# Altium footprint library ZYF_Connector.PcbLib: 31 footprints (part 1 of 2)
Each footprint in its own frame and in the unit in brackets; x right, y up, seen from the top. Pads: shape width x height; smd on the part's side, far side on the other; paste and mask are expansions set on the pad; w line width, h text height; cw(c..) or ccw(c..) is an arc to the next point about the centre after c.
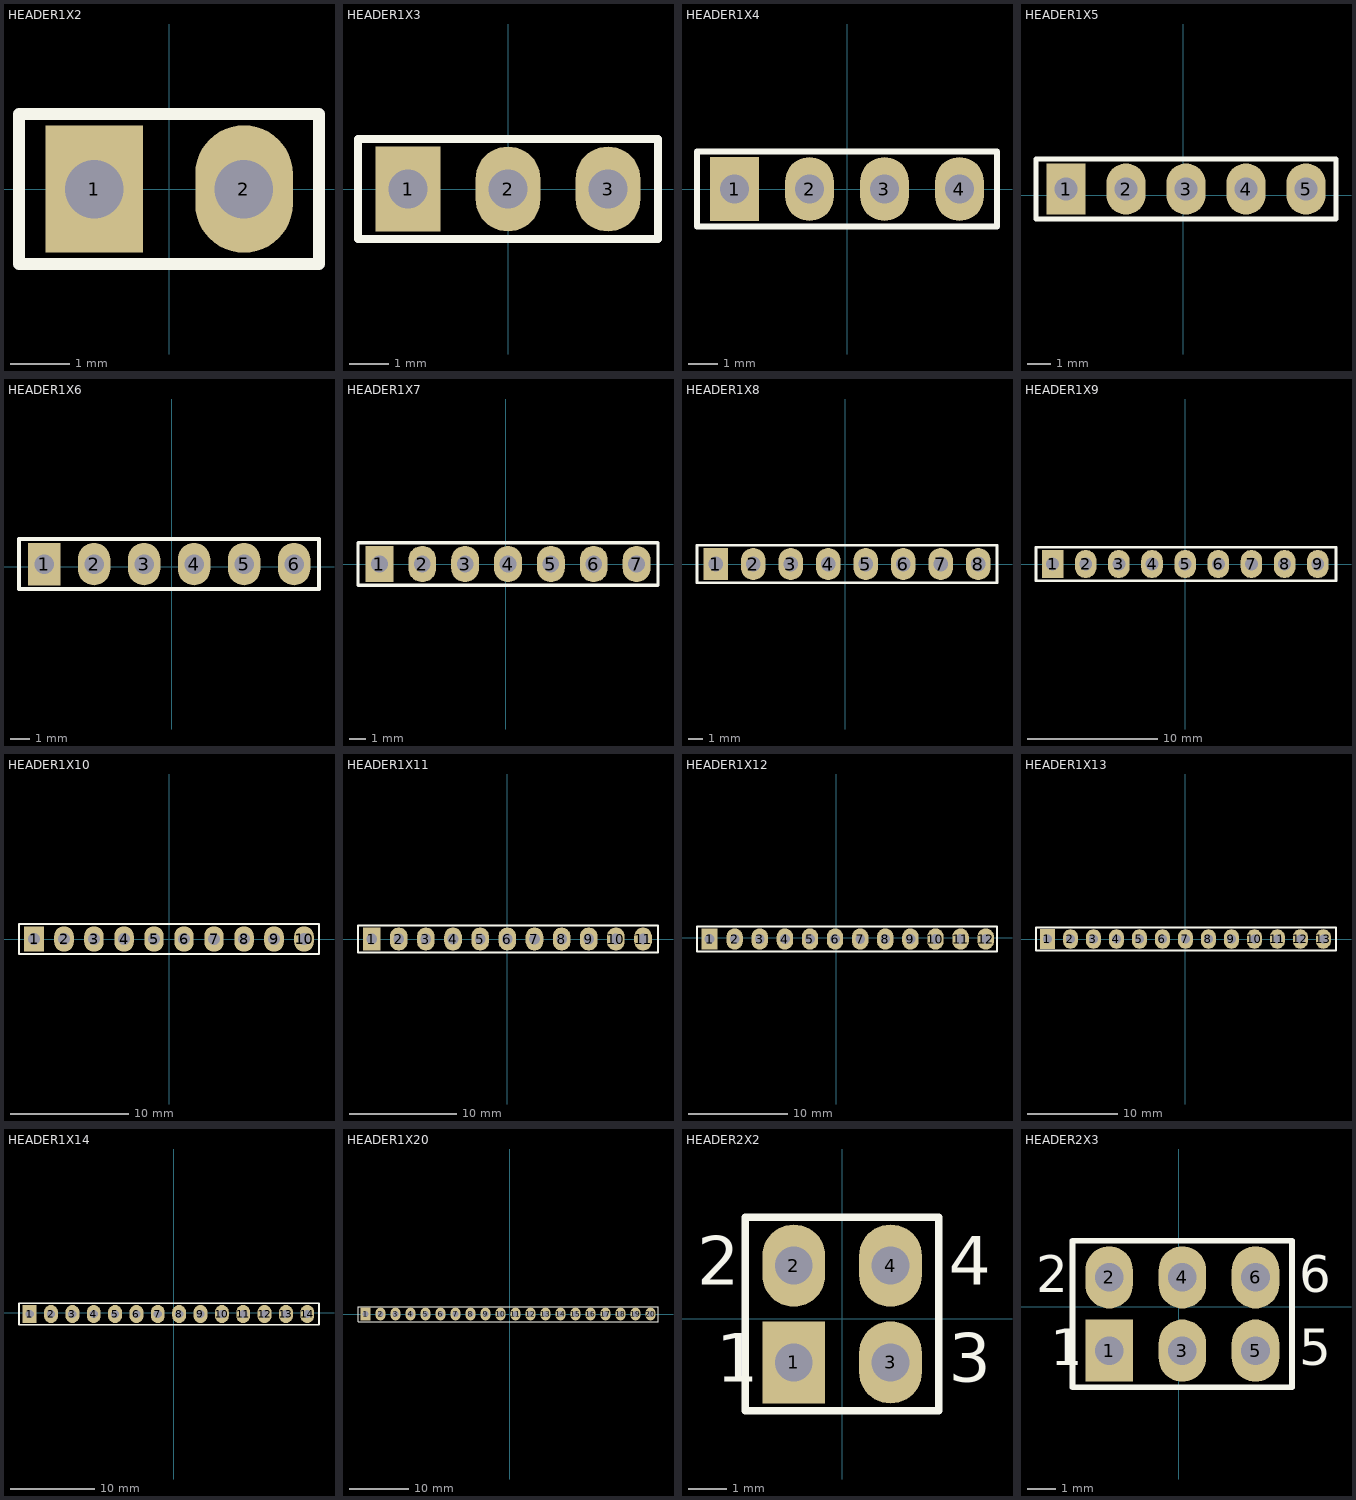
[diagram p0: the footprints below, top view; thin cyan lines are the x and y axes]

## HEADER1X2 [mil]
pads (2):
  rect 65x85 hole 39: 1(-50,0)
  oval 65x85 hole 39: 2(50,0)
Top Overlay:
  lines w7.87: -100,-50 100,-50 100,50 -100,50 -100,-50

## HEADER1X3 [mil]
pads (3):
  rect 65x85 hole 39: 1(-100,0)
  oval 65x85 hole 39: 2(0,0) 3(100,0)
Top Overlay:
  lines w7.87: -150,-50 150,-50 150,50 -150,50 -150,-50

## HEADER1X4 [mil]
pads (4):
  rect 65x85 hole 39: 1(-150,0)
  oval 65x85 hole 39: 2(-50,0) 3(50,0) 4(150,0)
Top Overlay:
  lines w7.87: -200,-50 200,-50 200,50 -200,50 -200,-50

## HEADER1X5 [mil]
pads (5):
  rect 65x85 hole 39: 1(-195,10)
  oval 65x85 hole 39: 2(-95,10) 3(5,10) 4(105,10) 5(205,10)
Top Overlay:
  lines w7.87: -245,-40 -245,60 255,60 255,-40 -245,-40

## HEADER1X6 [mil]
pads (6):
  rect 65x85 hole 39: 1(-255,5)
  oval 65x85 hole 39: 2(-155,5) 3(-55,5) 4(45,5) 5(145,5) 6(245,5)
Top Overlay:
  lines w7.87: -305,-45 295,-45 295,55 -305,55 -305,-45

## HEADER1X7 [mil]
pads (7):
  rect 65x85 hole 39: 1(-295,0)
  oval 65x85 hole 39: 2(-195,0) 3(-95,0) 4(5,0) 5(105,0) 6(205,0) 7(305,0)
Top Overlay:
  lines w7.87: -345,-50 -345,50 355,50 355,-50 -345,-50

## HEADER1X8 [mil]
pads (8):
  rect 65x85 hole 39: 1(-345,0)
  oval 65x85 hole 39: 2(-245,0) 3(-145,0) 4(-45,0) 5(55,0) 6(155,0) 7(255,0) 8(355,0)
Top Overlay:
  lines w7.87: -395,-50 -395,50 405,50 405,-50 -395,-50

## HEADER1X9 [mil]
pads (9):
  rect 65x85 hole 39: 1(-400,0)
  oval 65x85 hole 39: 2(-300,0) 3(-200,0) 4(-100,0) 5(0,0) 6(100,0) 7(200,0) 8(300,0) 9(400,0)
Top Overlay:
  lines w7.87: -450,-50 455,-50 455,50 -375,50 -450,50 -450,-50

## HEADER1X10 [mil]
pads (10):
  rect 65x85 hole 39: 1(-450,0)
  oval 65x85 hole 39: 2(-350,0) 3(-250,0) 4(-150,0) 5(-50,0) 6(50,0) 7(150,0) 8(250,0) 9(350,0) 10(450,0)
Top Overlay:
  lines w7.87: -500,-50 -500,50 -425,50 500,50 500,-50 -500,-50

## HEADER1X11 [mil]
pads (11):
  rect 65x85 hole 39: 1(-500,0)
  oval 65x85 hole 39: 2(-400,0) 3(-300,0) 4(-200,0) 5(-100,0) 6(0,0) 7(100,0) 8(200,0) 9(300,0) 10(400,0) 11(500,0)
Top Overlay:
  lines w7.87: -550,-50 555,-50 555,50 -475,50 -550,50 -550,-50

## HEADER1X12 [mil]
pads (12):
  rect 65x85 hole 39: 1(-505,-5)
  oval 65x85 hole 39: 2(-405,-5) 3(-305,-5) 4(-205,-5) 5(-105,-5) 6(-5,-5) 7(95,-5) 8(195,-5) 9(295,-5) 10(395,-5) 11(495,-5) 12(595,-5)
Top Overlay:
  lines w7.87: -555,-55 -555,45 -480,45 640,45 640,-55 -555,-55

## HEADER1X13 [mil]
pads (13):
  rect 65x85 hole 39: 1(-600,0)
  oval 65x85 hole 39: 2(-500,0) 3(-400,0) 4(-300,0) 5(-200,0) 6(-100,0) 7(0,0) 8(100,0) 9(200,0) 10(300,0) 11(400,0) 12(500,0) 13(600,0)
Top Overlay:
  lines w7.87: -650,-50 655,-50 655,50 -575,50 -650,50 -650,-50

## HEADER1X14 [mil]
pads (14):
  rect 65x85 hole 39: 1(-675,-5)
  oval 65x85 hole 39: 2(-575,-5) 3(-475,-5) 4(-375,-5) 5(-275,-5) 6(-175,-5) 7(-75,-5) 8(25,-5) 9(125,-5) 10(225,-5) 11(325,-5) 12(425,-5) 13(525,-5) 14(625,-5)
Top Overlay:
  lines w7.87: -725,-55 680,-55 680,45 -650,45 -725,45 -725,-55

## HEADER1X20 [mil]
pads (20):
  rect 65x85 hole 39: 1(-960,0)
  oval 65x85 hole 39: 2(-860,0) 3(-760,0) 4(-660,0) 5(-560,0) 6(-460,0) 7(-360,0) 8(-260,0) 9(-160,0) 10(-60,0) 11(40,0) 12(140,0) 13(240,0) 14(340,0) 15(440,0) 16(540,0) 17(640,0) 18(740,0) 19(840,0) 20(940,0)
Top Overlay:
  lines w7.87: -1010,-50 990,-50 990,50 -935,50 -1010,50 -1010,-50

## HEADER2X2 [mil]
pads (4):
  rect 65x85 hole 39: 1(-50,-45)
  oval 65x85 hole 39: 2(-50,55) 3(50,-45) 4(50,55)
Top Overlay:
  lines w7.87: -100,-95 100,-95 100,105 -100,105 -100,-95
  text "3" at 110,-65 h50
  text "4" at 110,35 h50
  text "2" at -150,35 h50
  text "1" at -130,-65 h50

## HEADER2X3 [mil]
pads (6):
  rect 65x85 hole 39: 1(-95,-60)
  oval 65x85 hole 39: 2(-95,40) 3(5,-60) 4(5,40) 5(105,-60) 6(105,40)
Top Overlay:
  lines w7.87: -36.67,-110 155,-110 ; 155,-110 155,90 -145,90 -145,-110 155,-110
  text "6" at 165,20 h50
  text "5" at 165,-80 h50
  text "2" at -195,20 h50
  text "1" at -175,-80 h50